# EAGLE library part BC847BPN (library _mtvl.transistors)
45 V, 100 mA NPN/PNP general-purpose transistor https://static.chipdip.ru/lib/106/DOC001106322.pdf
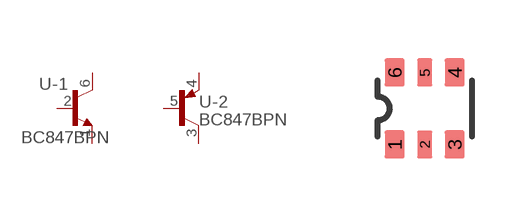
[diagram p5: symbol with the pads of SOT363; footprint SOT363]

Designator prefix U; gates -1=NPN -2=PNP

## BC847BPN  [SOT363]
1  -1:E  pas
2  -1:B  pas
3  -2:C  pas
4  -2:E  pas
5  -2:B  pas
6  -1:C  pas

## Footprint SOT363 (pad centres in mm)
smd 0.5 x 0.7: 1 -0.75,-0.9; 3 0.75,-0.9; 4 0.75,0.9; 6 -0.75,0.9
smd 0.38 x 0.7: 2 0,-0.9; 5 0,0.9